# Altium footprint library con-molex-micro-fit-3_0.PCBLIB: 1 footprints
Each footprint in its own frame and in the unit in brackets; x right, y up, seen from the top. Pads: shape width x height; smd on the part's side, far side on the other; paste and mask are expansions set on the pad; w line width, h text height; cw(c..) or ccw(c..) is an arc to the next point about the centre after c.
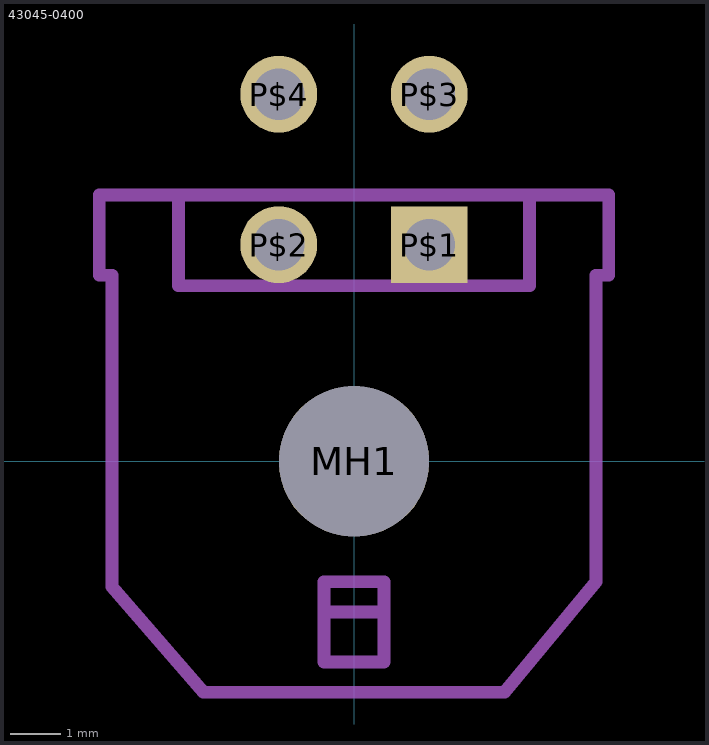
[diagram p0: the footprint, top view; thin cyan lines are the x and y axes]

## 43045-0400 [mm]
pads (5):
  round 3 hole 3 unplated: MH1(0,0)
  rect 1.53x1.53 / inner round 1.414 / far side rect 1.53x1.53 hole 1.02: P$1(1.5,4.32)
  round 1.53 hole 1.02: P$2(-1.5,4.32) P$3(1.5,7.32) P$4(-1.5,7.32)
tPlace:
  lines w0.254: -3.5,5.31 -5.08,5.31 -5.08,3.71 -4.825,3.71 -4.825,-2.5 -3,-4.6 3,-4.6 4.825,-2.4 4.825,3.71 5.08,3.71 5.08,5.31 3.5,5.31 ; -3.5,5.31 3.5,5.31 ; -3.5,5.31 -3.5,3.5 3.5,3.5 3.5,5.31 ; -0.6,-3 -0.6,-4 0.6,-4 0.6,-3 ; -0.6,-3 -0.6,-2.4 0.6,-2.4 0.6,-3 ; -0.6,-3 0.6,-3